# EAGLE library part DRV8323SRTAT (library VaskoCustom)
DRV8323SRTAT 6 to 60-V Three-PhaseSmartGate Driver
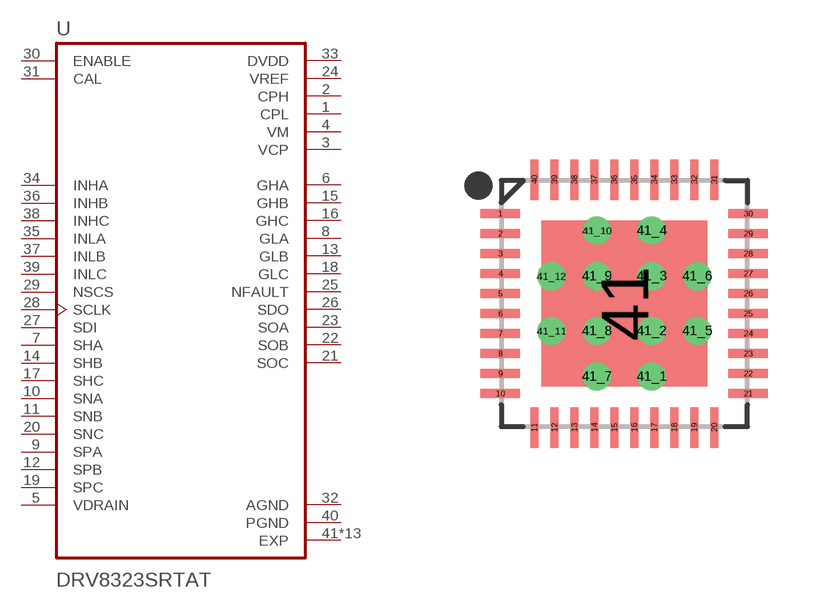
[diagram p2: symbol with the pads of RTA-PACKAGE; footprint RTA-PACKAGE]

Designator prefix U

## DRV8323SRTAT (VALUE: DRV8323SRTAT)  [RTA-PACKAGE]
1  CPL  pwr
2  CPH  pwr
3  VCP  pwr
4  VM  pwr
5  VDRAIN  in
6  GHA  out
7  SHA  in
8  GLA  out
9  SPA  in
10  SNA  in
11  SNB  in
12  SPB  in
13  GLB  out
14  SHB  in
15  GHB  out
16  GHC  out
17  SHC  in
18  GLC  out
19  SPC  in
20  SNC  in
21  SOC  out
22  SOB  out
23  SOA  out
24  VREF  pwr
25  NFAULT  out
26  SDO  out
27  SDI  in
28  SCLK  in
29  NSCS  in
30  ENABLE  in
31  CAL  in
32  AGND  pwr
33  DVDD  pwr
34  INHA  in
35  INLA  in
36  INHB  in
37  INLB  in
38  INHC  in
39  INLC  in
40  PGND  pwr
41  EXP  pwr
41_1  EXP  pwr
41_2  EXP  pwr
41_3  EXP  pwr
41_4  EXP  pwr
41_5  EXP  pwr
41_6  EXP  pwr
41_7  EXP  pwr
41_8  EXP  pwr
41_9  EXP  pwr
41_10  EXP  pwr
41_11  EXP  pwr
41_12  EXP  pwr

## Footprint RTA-PACKAGE (pad centres in mm)
RTA Package 40-Pin WQFN With Exposed Thermal Pad Top View
smd 1 x 0.22: 1 -3.1,2.25; 2 -3.1,1.75; 3 -3.1,1.25; 4 -3.1,0.75; 5 -3.1,0.25; 6 -3.1,-0.25; 7 -3.1,-0.75; 8 -3.1,-1.25; 9 -3.1,-1.75; 10 -3.1,-2.25; 21 3.1,-2.25; 22 3.1,-1.75; 23 3.1,-1.25; 24 3.1,-0.75; 25 3.1,-0.25; 26 3.1,0.25; 27 3.1,0.75; 28 3.1,1.25; 29 3.1,1.75; 30 3.1,2.25
smd 0.22 x 1: 11 -2.25,-3.1; 12 -1.75,-3.1; 13 -1.25,-3.1; 14 -0.75,-3.1; 15 -0.25,-3.1; 16 0.25,-3.1; 17 0.75,-3.1; 18 1.25,-3.1; 19 1.75,-3.1; 20 2.25,-3.1; 31 2.25,3.1; 32 1.75,3.1; 33 1.25,3.1; 34 0.75,3.1; 35 0.25,3.1; 36 -0.25,3.1; 37 -0.75,3.1; 38 -1.25,3.1; 39 -1.75,3.1; 40 -2.25,3.1
smd 4.15 x 4.15: 41 0,0
drill 0.2 pad 0.3: 41_1 0.685,-1.825; 41_2 0.685,-0.685; 41_3 0.685,0.685; 41_4 0.685,1.825; 41_5 1.825,-0.685; 41_6 1.825,0.685; 41_7 -0.685,-1.825; 41_8 -0.685,-0.685; 41_9 -0.685,0.685; 41_10 -0.685,1.825; 41_11 -1.825,-0.685; 41_12 -1.825,0.685